# Altium footprint library MicromouseLib.PcbLib: 42 footprints (part 3 of 3)
Each footprint in its own frame and in the unit in brackets; x right, y up, seen from the top. Pads: shape width x height; smd on the part's side, far side on the other; paste and mask are expansions set on the pad; w line width, h text height; cw(c..) or ccw(c..) is an arc to the next point about the centre after c.
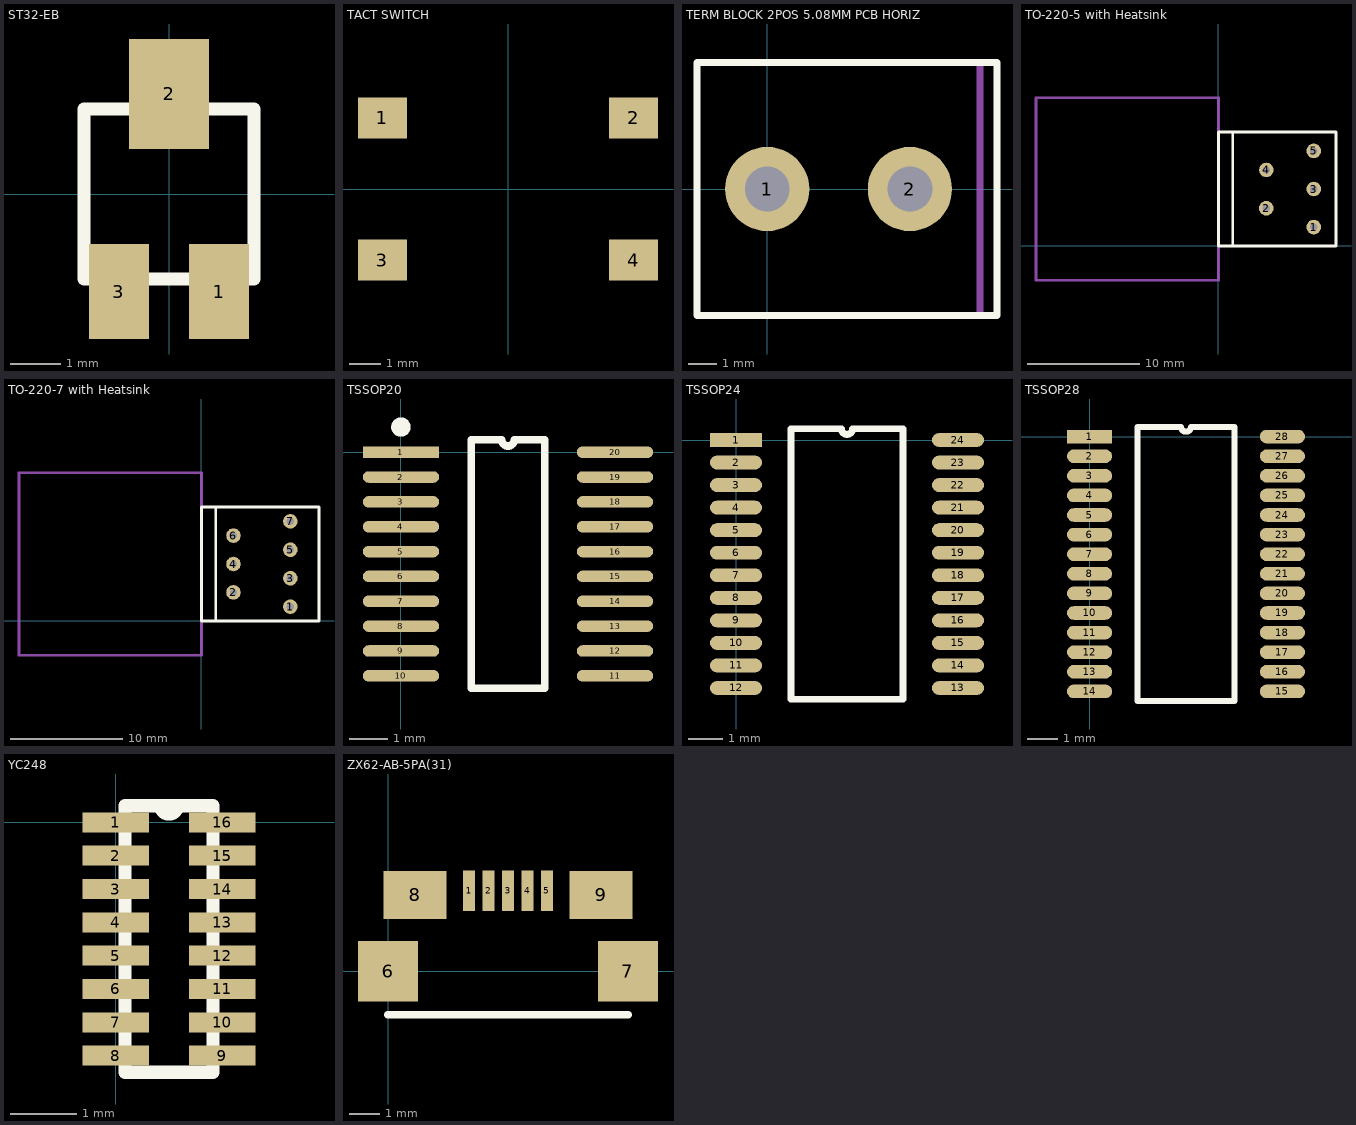
[diagram p2: the footprints below, top view; thin cyan lines are the x and y axes]

## ST32-EB [mm]
pads (3):
  rect 1.2x1.9 smd: 1(1,-1.95) 3(-1,-1.95)
  rect 1.6x2.2 smd: 2(0,2)
Top Overlay:
  lines w0.254: -1.7,-1.7 1.7,-1.7 1.7,1.7 -1.7,1.7 -1.7,-1.7
3D body "ST-32ETB10k_(14) (colored).stp": height 2, standoff 0, extent -1.7,-2.172 1.7,2.228

## TACT SWITCH [mm]
pads (4):
  rect 1.55x1.3 smd: 1(-3.975,2.25) 2(3.975,2.25) 3(-3.975,-2.25) 4(3.975,-2.25)
3D body: height 5, standoff 3.45, extent -1.75,-1.75 1.75,1.75
3D body: height 3.45, standoff 0, extent -3,-3 3,3

## TERM BLOCK 2POS 5.08MM PCB HORIZ [mm]
height 13.5
pads (2):
  round 3 hole 1.6: 1(0,0) 2(5.08,0)
Top Overlay:
  lines w0.254: -2.5,-4.5 8.18,-4.5 8.18,4.5 -2.5,4.5 -2.5,-4.5
Top Outline:
  lines w0.254: 7.58,-4.48 7.58,4.5
3D body "Screw Terminal Block 5mm (GREEN).stp": height 12.6, standoff -4.3, extent -2.495,-4.485 8.105,4.515

## TO-220-5 with Heatsink [mm] "TO-220-5 with 335-1092-ND heatsink"
pads (5):
  round 1.3 hole 0.65: 1(8.51,1.68) 2(4.27,3.36) 3(8.51,5.08) 4(4.28,6.78) 5(8.51,8.48)
Top Overlay:
  lines w0.254: 1.27,0 1.27,10.16 ; 0,0 0,10.16 10.5,10.16 10.5,8.48 10.5,0 0,0
Top Outline:
  lines w0.254: 0,0 0,-3.07 -16.3,-3.07 -16.3,13.23 0,13.23 0,10.16

## TO-220-7 with Heatsink [mm] "TO-220-5 with 335-1092-ND heatsink"
pads (7):
  round 1.3 hole 0.65: 1(7.94,1.27) 2(2.86,2.54) 3(7.94,3.81) 4(2.86,5.08) 5(7.94,6.35) 6(2.86,7.62) 7(7.94,8.89)
Top Overlay:
  lines w0.254: 1.27,0 1.27,10.16 ; 0,0 0,10.16 10.5,10.16 10.5,8.48 10.5,0 0,0
Top Outline:
  lines w0.254: 0,0 0,-3.07 -16.3,-3.07 -16.3,13.23 0,13.23 0,10.16

## TSSOP20 [mm]
pads (20):
  rect 2x0.3 smd: 1(0,0)
  oval 2x0.3 smd: 2(0,-0.65) 3(0,-1.3) 4(0,-1.95) 5(0,-2.6) 6(0,-3.25) 7(0,-3.9) 8(0,-4.55) 9(0,-5.2) 10(0,-5.85) 11(5.6,-5.85) 12(5.6,-5.2) 13(5.6,-4.55) 14(5.6,-3.9) 15(5.6,-3.25) 16(5.6,-2.6) 17(5.6,-1.95) 18(5.6,-1.3) 19(5.6,-0.65) 20(5.6,0)
Top Overlay:
  circle w0.254: c-0.002,0.659 r0.127
  lines w0.2: 1.835,-6.175 3.765,-6.175 3.765,0.325 2.962,0.325 cw(c2.8,0.325) 2.638,0.325 1.835,0.325 1.835,-6.175
3D body: height 1.2, standoff 0, extent 0.6,-6.175 5,0.325

## TSSOP24 [mm]
height 1.2
pads (24):
  rect 1.5x0.4 smd: 1(0,0)
  oval 1.5x0.4 smd: 2(0,-0.65) 3(0,-1.3) 4(0,-1.95) 5(0,-2.6) 6(0,-3.25) 7(0,-3.9) 8(0,-4.55) 9(0,-5.2) 10(0,-5.85) 11(0,-6.5) 12(0,-7.15) 13(6.4,-7.15) 14(6.4,-6.5) 15(6.4,-5.85) 16(6.4,-5.2) 17(6.4,-4.55) 18(6.4,-3.9) 19(6.4,-3.25) 20(6.4,-2.6) 21(6.4,-1.95) 22(6.4,-1.3) 23(6.4,-0.65) 24(6.4,0)
Top Overlay:
  lines w0.2: 1.585,-7.475 4.815,-7.475 4.815,0.325 3.362,0.325 cw(c3.2,0.325) 3.037,0.325 1.585,0.325 1.585,-7.475
3D body: height 1.2, standoff 0, extent 1,-7.475 5.4,0.325

## TSSOP28 [mm]
pads (28):
  rect 1.5x0.45 smd: 1(0,0)
  oval 1.5x0.45 smd: 2(0,-0.65) 3(0,-1.3) 4(0,-1.95) 5(0,-2.6) 6(0,-3.25) 7(0,-3.9) 8(0,-4.55) 9(0,-5.2) 10(0,-5.85) 11(0,-6.5) 12(0,-7.15) 13(0,-7.8) 14(0,-8.45) 15(6.4,-8.45) 16(6.4,-7.8) 17(6.4,-7.15) 18(6.4,-6.5) 19(6.4,-5.85) 20(6.4,-5.2) 21(6.4,-4.55) 22(6.4,-3.9) 23(6.4,-3.25) 24(6.4,-2.6) 25(6.4,-1.95) 26(6.4,-1.3) 27(6.4,-0.65) 28(6.4,0)
Top Overlay:
  lines w0.2: 1.585,-8.775 1.585,0.325 3.037,0.325 ccw(c3.2,0.325) 3.362,0.325 4.815,0.325 4.815,-8.775 1.585,-8.775
3D body: height 1.1, standoff 0, extent 0.95,-9.125 5.45,0.675

## YC248 [mm]
pads (16):
  rect 1x0.3 smd: 1(0,0) 2(0,-0.5) 3(0,-1) 4(0,-1.5) 5(0,-2) 6(0,-2.5) 7(0,-3) 8(0,-3.5) 9(1.6,-3.5) 10(1.6,-3) 11(1.6,-2.5) 12(1.6,-2) 13(1.6,-1.5) 14(1.6,-1) 15(1.6,-0.5) 16(1.6,0)
Top Overlay:
  lines w0.2: 0.14,-3.75 0.14,0.25 0.925,0.25 cw(c0.8,0.25) 0.675,0.25 1.46,0.25 1.46,-3.75 0.14,-3.75
3D body: height 0.45, standoff 0, extent 0.3,-3.8 1.3,0.3
3D body: height 0.45, standoff 0, extent 0,-0.15 0.3,0.3
3D body: height 0.45, standoff 0, extent 0,-0.65 0.3,-0.35
3D body: height 0.45, standoff 0, extent 0,-1.15 0.3,-0.85
3D body: height 0.45, standoff 0, extent 0,-1.65 0.3,-1.35
3D body: height 0.45, standoff 0, extent 0,-2.15 0.3,-1.85
3D body: height 0.45, standoff 0, extent 0,-2.65 0.3,-2.35
3D body: height 0.45, standoff 0, extent 0,-3.15 0.3,-2.85
3D body: height 0.45, standoff 0, extent 1.3,-3.15 1.6,-2.85
3D body: height 0.45, standoff 0, extent 1.3,-2.65 1.6,-2.35
3D body: height 0.45, standoff 0, extent 1.3,-2.15 1.6,-1.85
3D body: height 0.45, standoff 0, extent 1.3,-1.65 1.6,-1.35
3D body: height 0.45, standoff 0, extent 1.3,-1.15 1.6,-0.85
3D body: height 0.45, standoff 0, extent 1.3,-0.65 1.6,-0.35
3D body: height 0.45, standoff 0, extent 1.3,-0.15 1.6,0.3
3D body: height 0.45, standoff 0, extent 1.3,-3.8 1.6,-3.35
3D body: height 0.45, standoff 0, extent 0,-3.8 0.3,-3.35

## ZX62-AB-5PA(31) [mm]
pads (9):
  rect 0.4x1.35 smd: 1(2.7,2.675) 2(3.35,2.675) 3(4,2.675) 4(4.65,2.675) 5(5.3,2.675)
  rect 2x2 smd: 6(0,0) 7(8,0)
  rect 2.1x1.6 smd: 8(0.9,2.55) 9(7.1,2.55)
Top Overlay:
  lines w0.254: 0,-1.45 8,-1.45
3D body "ZX62-AB-5PA (colored).stp": height 2.45, standoff -0.5, extent -0.389,-2.211 8.411,3.389